# Altium footprint library SparkFun-GPS.PCBLIB: 20 footprints (part 1 of 2)
Each footprint in its own frame and in the unit in brackets; x right, y up, seen from the top. Pads: shape width x height; smd on the part's side, far side on the other; paste and mask are expansions set on the pad; w line width, h text height; cw(c..) or ccw(c..) is an arc to the next point about the centre after c.
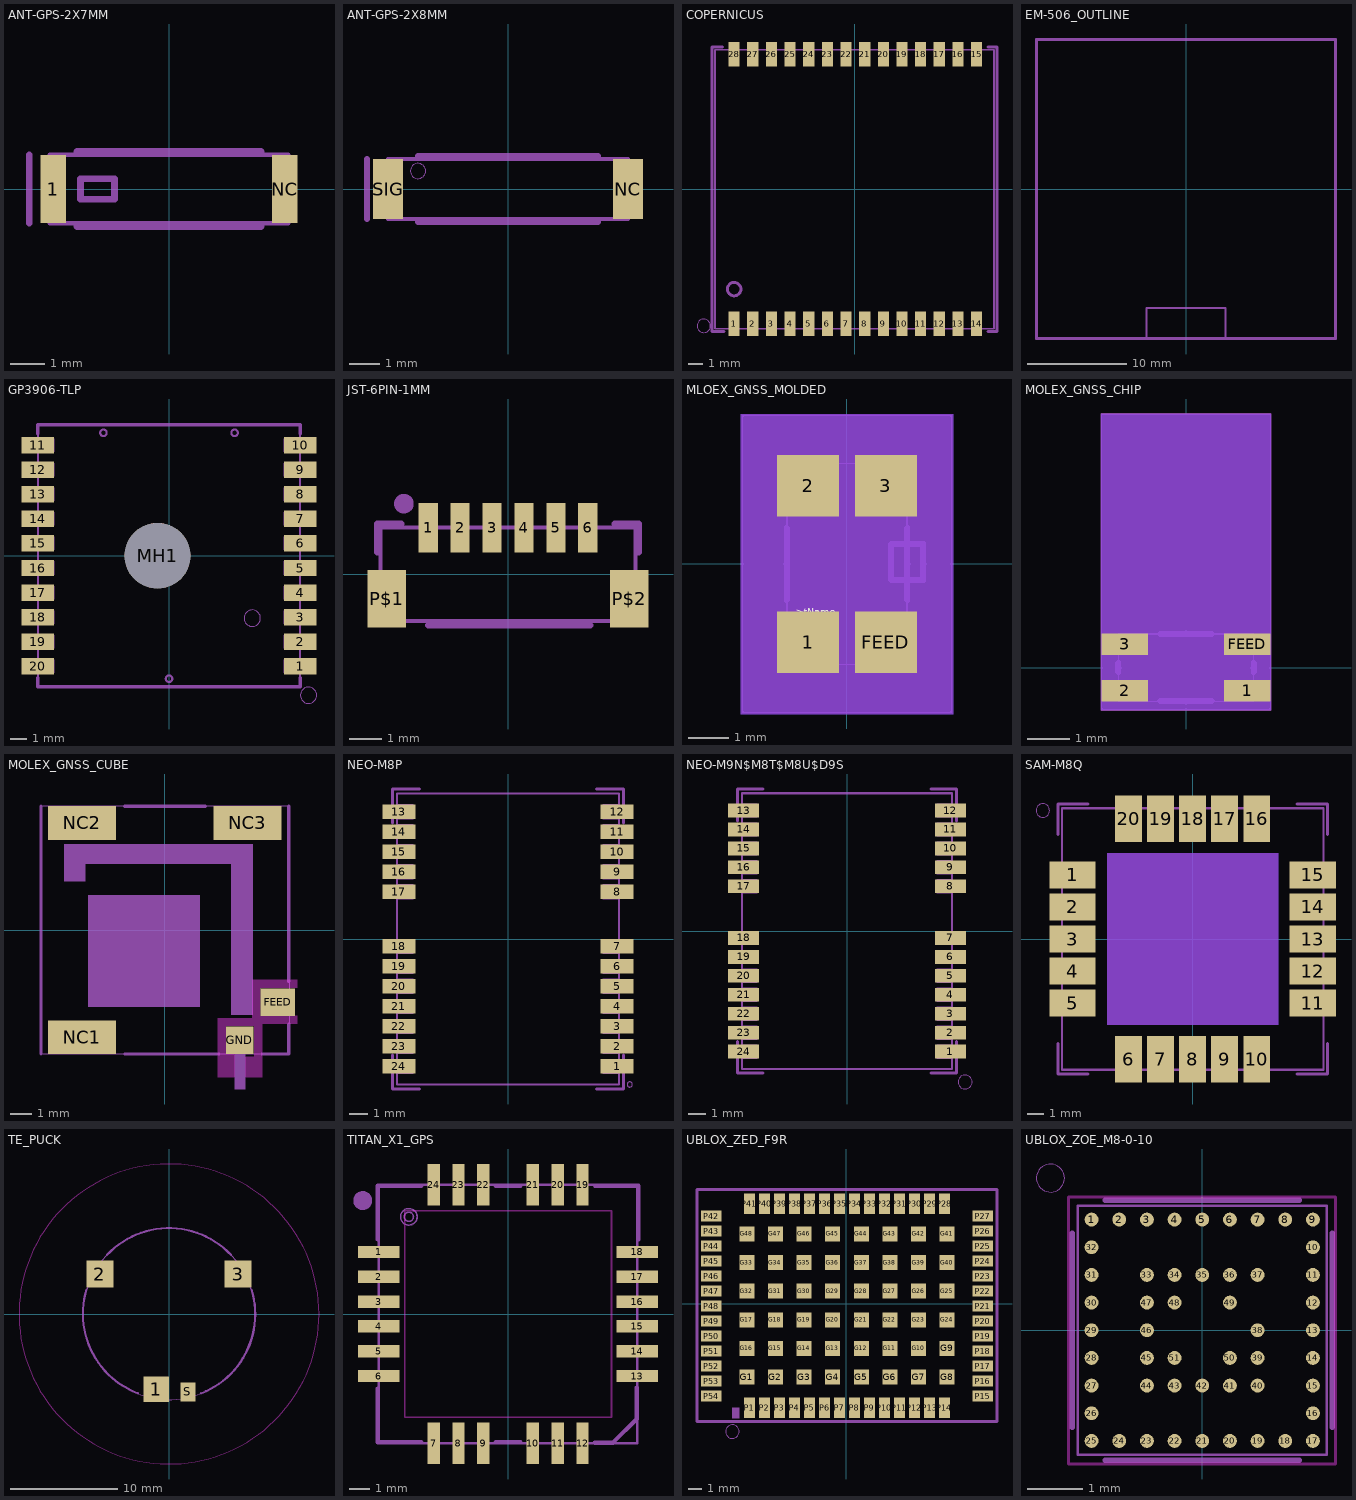
[diagram p0: the footprints below, top view; thin cyan lines are the x and y axes]

## ANT-GPS-2X7MM [mm]
pads (2):
  rect 0.75x2 smd: 1(-3.4,0) NC(3.4,0)
tDocu:
  lines w0.127: -3.5,-1 3.5,-1 3.5,1 -3.5,1 -3.5,-1
tPlace:
  lines w0.203: -4.1,-1 -4.1,1 ; -2.7,-1.1 2.7,-1.1 ; -2.7,1.1 2.7,1.1 ; -2.6,-0.3 -2.6,0.3 -1.6,0.3 -1.6,-0.3 -2.6,-0.3

## ANT-GPS-2X8MM [mm]
pads (2):
  rect 1x2 smd: NC(4,0) SIG(-4,0)
tDocu:
  lines w0.127: -4,-1 -4,1 4,1 4,-1 -4,-1
  text "152111" at 0,0 h0.52
tPlace:
  circle w0: c-3,0.6 r0.254
  lines w0.203: -4.7,-1 -4.7,1 ; -3,-1.1 3,-1.1 ; -3,1.1 3,1.1

## COPERNICUS [mil]
pads (28):
  rect 30x65 smd paste+0: 1(-322.83,-360.8) 2(-272.83,-360.8) 3(-222.83,-360.8) 4(-172.83,-360.8) 5(-122.83,-360.8) 6(-72.83,-360.8) 7(-22.83,-360.8) 8(27.17,-360.8) 9(77.17,-360.8) 10(127.17,-360.8) 11(177.17,-360.8) 12(227.17,-360.8) 13(277.17,-360.8) 14(327.17,-360.8) 15(327.17,362.2) 16(277.17,362.2) 17(227.17,362.2) 18(177.17,362.2) 19(127.17,362.2) 20(77.17,362.2) 21(27.17,362.2) 22(-22.83,362.2) 23(-72.83,362.2) 24(-122.83,362.2) 25(-172.83,362.2) 26(-222.83,362.2) 27(-272.83,362.2) 28(-322.83,362.2)
Top Paste:
  drawing of 28 lines, arcs and shapes, not listed
tDocu:
  lines w5: -374.02,-374.02 -374.02,374.02 374.02,374.02 374.02,-374.02 -374.02,-374.02
tPlace:
  circle w8: c-322.83,-267.72 r17.99
  circle w0: c-404.45,-366.14 r17.99
  lines w8: -354.33,381.89 -381.89,381.89 -381.89,-381.89 -350.39,-381.89 ; 358.27,-381.89 381.89,-381.89 381.89,381.89 358.27,381.89

## EM-506_OUTLINE [mm]
tDocu:
  lines w0.127: -15,-15 -15,15 15,15 15,-15 -15,-15
tPlace:
  lines w0.203: -4,-15.127 4,-15.127 ; -4,-15.127 -15.127,-15.127 -15.127,15.127 15.127,15.127 15.127,-15.127 4,-15.127 ; -4,-15.127 -4,-12 4,-12 4,-15.127

## GP3906-TLP [mm]
pads (21):
  rect 2x1 smd paste+0: 1(8,-6.75) 2(8,-5.25) 3(8,-3.75) 4(8,-2.25) 5(8,-0.75) 6(8,0.75) 7(8,2.25) 8(8,3.75) 9(8,5.25) 10(8,6.75) 11(-8,6.75) 12(-8,5.25) 13(-8,3.75) 14(-8,2.25) 15(-8,0.75) 16(-8,-0.75) 17(-8,-2.25) 18(-8,-3.75) 19(-8,-5.25) 20(-8,-6.75)
  round 4 hole 4 unplated: MH1(-0.7,0)
Top Paste:
  region: -9.15,-1.4 -9.15,-0.1 -6.85,-0.1 -6.85,-1.4
  region: -9.15,0.1 -9.15,1.4 -6.85,1.4 -6.85,0.1
  region: -9.15,1.6 -9.15,2.9 -6.85,2.9 -6.85,1.6
  region: -9.15,3.1 -9.15,4.4 -6.85,4.4 -6.85,3.1
  region: -9.15,4.6 -9.15,5.9 -6.85,5.9 -6.85,4.6
  region: -9.15,6.1 -9.15,7.4 -6.85,7.4 -6.85,6.1
  region: -9.15,-2.9 -9.15,-1.6 -6.85,-1.6 -6.85,-2.9
  region: -9.15,-4.4 -9.15,-3.1 -6.85,-3.1 -6.85,-4.4
  region: -9.15,-5.9 -9.15,-4.6 -6.85,-4.6 -6.85,-5.9
  region: -9.15,-7.4 -9.15,-6.1 -6.85,-6.1 -6.85,-7.4
  region: 9.15,-6.1 9.15,-7.4 6.85,-7.4 6.85,-6.1
  region: 9.15,-4.6 9.15,-5.9 6.85,-5.9 6.85,-4.6
  region: 9.15,-3.1 9.15,-4.4 6.85,-4.4 6.85,-3.1
  region: 9.15,-1.6 9.15,-2.9 6.85,-2.9 6.85,-1.6
  region: 9.15,-0.1 9.15,-1.4 6.85,-1.4 6.85,-0.1
  region: 9.15,1.4 9.15,0.1 6.85,0.1 6.85,1.4
  region: 9.15,2.9 9.15,1.6 6.85,1.6 6.85,2.9
  region: 9.15,4.4 9.15,3.1 6.85,3.1 6.85,4.4
  region: 9.15,5.9 9.15,4.6 6.85,4.6 6.85,5.9
  region: 9.15,7.4 9.15,6.1 6.85,6.1 6.85,7.4
tDocu:
  drawing of 28 lines, arcs and shapes, not listed
tPlace:
  circle w0: c8.509,-8.508 r0.5
  circle w0: c5.08,-3.809 r0.5
  lines w0.127: 8,-7.45 8,7.45
  lines w0.203: -8,-7.45 -8,-8 8,-8 8,-7.45 ; -8,7.45 -8,8 8,8 8,7.45

## JST-6PIN-1MM [mm]
pads (8):
  rect 0.6x1.55 smd: 1(-2.5,1.45) 2(-1.5,1.45) 3(-0.5,1.45) 4(0.5,1.45) 5(1.5,1.45) 6(2.5,1.45)
  rect 1.2x1.8 smd: P$1(-3.8,-0.775) P$2(3.8,-0.775)
tDocu:
  lines w0.127: -4,-1.471 4,-1.471 4,1.471 -4,1.471 -4,-1.471
tPlace:
  circle w0.406: c-3.262,2.212 r0.105
  lines w0.203: -4.104,0.688 -4.104,1.577 -3.342,1.577 ; -2.5,-1.598 2.58,-1.598 ; 3.342,1.577 4.104,1.577 4.104,0.688

## MLOEX_GNSS_MOLDED [mm]
pads (4):
  rect 1.54x1.54 smd: 1(-0.97,-1.95) 2(-0.97,1.95) 3(0.97,1.95) FEED(0.97,-1.95)
Top keep-out:
  region: -2.64,-1.2 -2.64,3.735 2.64,3.735 2.64,-1.2
  region: -2.64,-3.735 -2.64,-1.2 0.2,-1.2 0.2,-3.735
  region: 0.2,-3.735 0.2,-2.7 2.64,-2.7 2.64,-3.735
Bottom keep-out:
  region: -2.64,-3.735 -2.64,3.735 2.64,3.735 2.64,-3.735
Top Overlay:
  text ">tName" at -1.27,-1.27 h0.17
tDocu:
  lines w0.05: -2.6,-3.7 2.6,-3.7 2.6,3.7 -2.6,3.7 -2.6,-3.7 ; -1.5,-2.5 -1.5,2.5 1.5,2.5 1.5,-2.5 -1.5,-2.5
tValues:
  text ">tValue" at -1.27,-1.651 h0.17
tPlace:
  lines w0.152: -1.5,-0.9 -1.5,0.9 ; 1.5,-0.9 1.5,-0.4 ; 1.5,0.9 1.5,0.5 ; 1.6,0.5 1.9,0.5 1.9,-0.4 1.5,-0.4 ; 1.5,-0.4 1.5,0.5 ; 1.5,-0.4 1.1,-0.4 1.1,0.5 1.5,0.5

## MOLEX_GNSS_CHIP [mm]
pads (4):
  rect 1.1x0.5 smd: 1(1.45,-0.55) 2(-1.45,-0.55) 3(-1.45,0.55) FEED(1.45,0.55)
Top keep-out:
  region: -2,1 -2,6 2,6 2,1
  region: -0.8,-1 -0.8,1 0.8,1 0.8,-1
  region: -2,-0.2 -2,0.2 2,0.2 2,-0.2
Bottom keep-out:
  region: -2,-1 -2,6 2,6 2,-1
tDocu:
  lines w0.05: -2,-1 2,-1 2,6 -2,6 -2,-1 ; -1.6,-0.8 1.6,-0.8 1.6,0.8 -1.6,0.8 -1.6,-0.8
  text "Reversible" at 0,0.15 h0.17
  text "Antenna" at 0,-0.15 h0.17
tPlace:
  lines w0.152: -1.6,-0.1 -1.6,0.1 ; -0.6,-0.8 0.6,-0.8 ; -0.6,0.8 0.6,0.8 ; 1.6,-0.1 1.6,0.1

## MOLEX_GNSS_CUBE [mm]
pads (5):
  rect 1.61x1.3 smd: FEED(5.33,-3.4)
  rect 1.3x1.32 smd: GND(3.545,-5.2)
  rect 3.2x1.6 smd: NC1(-3.905,-5.06) NC2(-3.905,5.06) NC3(3.905,5.06)
Top keep-out:
  region: 4.125,-4.45 4.125,-2.35 4.5,-2.35 4.5,-4.45
  region: 6.25,-2.725 4.15,-2.725 4.15,-2.35 6.25,-2.35
  region: 6.25,-4.425 4.15,-4.425 4.15,-4.05 6.25,-4.05
  region: 4.6,-4.525 2.5,-4.525 2.5,-4.15 4.6,-4.15
  region: 4.225,-6.95 4.225,-4.5 4.6,-4.5 4.6,-6.95
  region: 3.795,-6.95 3.795,-5.975 4.237,-5.975 4.237,-6.95
  region: 2.845,-6.95 2.845,-5.625 3.288,-5.625 3.288,-6.95
  region: 2.875,-4.5 2.875,-6.95 2.5,-6.95 2.5,-4.5
  lines w0.05: 3.1,-6.94 3.1,-5.9
tDocu:
  region: 3.295,-7.5 3.295,-5 3.795,-5 3.795,-7.5
  lines w0.05: -5.86,-5.86 5.86,-5.86 5.86,5.86 -5.86,5.86 -5.86,-5.86
tPlace:
  region: 3.14,-4 3.14,4.05 4.14,4.05 4.14,-4
  region: -4.75,3.14 -4.75,4.05 3.14,4.05 3.14,3.14
  region: -4.75,2.3 -4.75,3.14 -3.75,3.14 -3.75,2.3
  region: -3.61,-3.61 -3.61,1.64 1.64,1.64 1.64,-3.61
  lines w0.152: -5.842,-5.842 -5.842,5.842 ; -1.905,-5.842 2.54,-5.842 ; -1.905,5.842 1.905,5.842 ; 4.572,-5.842 5.842,-5.842 5.842,-4.445 ; 5.842,-2.413 5.842,5.842

## NEO-M8P [mm]
pads (24):
  rect 1.8x0.8 smd paste+0: 1(6,-7) 2(6,-5.9) 3(6,-4.8) 4(6,-3.7) 5(6,-2.6) 6(6,-1.5) 7(6,-0.4) 8(6,2.6) 9(6,3.7) 10(6,4.8) 11(6,5.9) 12(6,7) 13(-6,7) 14(-6,5.9) 15(-6,4.8) 16(-6,3.7) 17(-6,2.6) 18(-6,-0.4) 19(-6,-1.5) 20(-6,-2.6) 21(-6,-3.7) 22(-6,-4.8) 23(-6,-5.9) 24(-6,-7)
Top Paste:
  drawing of 48 lines, arcs and shapes, not listed
tDocu:
  region: 5.2,-7.4 5.2,-6.6 6.1,-6.6 6.1,-7.4
  region: 5.2,-6.3 5.2,-5.5 6.1,-5.5 6.1,-6.3
  region: 5.2,-5.2 5.2,-4.4 6.1,-4.4 6.1,-5.2
  region: 5.2,-4.1 5.2,-3.3 6.1,-3.3 6.1,-4.1
  region: 5.2,-3 5.2,-2.2 6.1,-2.2 6.1,-3
  region: 5.2,-1.9 5.2,-1.1 6.1,-1.1 6.1,-1.9
  region: 5.2,-0.8 5.2,0 6.1,0 6.1,-0.8
  region: 5.2,2.2 5.2,3 6.1,3 6.1,2.2
  region: 5.2,3.3 5.2,4.1 6.1,4.1 6.1,3.3
  region: 5.2,4.4 5.2,5.2 6.1,5.2 6.1,4.4
  region: 5.2,5.5 5.2,6.3 6.1,6.3 6.1,5.5
  region: 5.2,6.6 5.2,7.4 6.1,7.4 6.1,6.6
  region: -6.1,6.6 -6.1,7.4 -5.2,7.4 -5.2,6.6
  region: -6.1,5.5 -6.1,6.3 -5.2,6.3 -5.2,5.5
  region: -6.1,4.4 -6.1,5.2 -5.2,5.2 -5.2,4.4
  region: -6.1,3.3 -6.1,4.1 -5.2,4.1 -5.2,3.3
  region: -6.1,2.2 -6.1,3 -5.2,3 -5.2,2.2
  region: -6.1,-0.8 -6.1,0 -5.2,0 -5.2,-0.8
  region: -6.1,-1.9 -6.1,-1.1 -5.2,-1.1 -5.2,-1.9
  region: -6.1,-3 -6.1,-2.2 -5.2,-2.2 -5.2,-3
  region: -6.1,-4.1 -6.1,-3.3 -5.2,-3.3 -5.2,-4.1
  region: -6.1,-5.2 -6.1,-4.4 -5.2,-4.4 -5.2,-5.2
  region: -6.1,-6.3 -6.1,-5.5 -5.2,-5.5 -5.2,-6.3
  region: -6.1,-7.4 -6.1,-6.6 -5.2,-6.6 -5.2,-7.4
  lines w0.127: -6.1,-8 6.1,-8 6.1,8 -6.1,8 -6.1,-8
tPlace:
  circle w0: c6.7,-8 r0.141
  lines w0.178: -6.35,-6.4 -6.35,-8.25 -4.88,-8.25 ; -6.35,6.4 -6.35,8.25 -4.88,8.25 ; 4.88,-8.25 6.35,-8.25 6.35,-6.4 ; 4.88,8.25 6.35,8.25 6.35,6.4

## NEO-M9N$M8T$M8U$D9S [mm]
pads (24):
  rect 1.8x0.8 smd paste+0: 1(6,-7) 2(6,-5.9) 3(6,-4.8) 4(6,-3.7) 5(6,-2.6) 6(6,-1.5) 7(6,-0.4) 8(6,2.6) 9(6,3.7) 10(6,4.8) 11(6,5.9) 12(6,7) 13(-6,7) 14(-6,5.9) 15(-6,4.8) 16(-6,3.7) 17(-6,2.6) 18(-6,-0.4) 19(-6,-1.5) 20(-6,-2.6) 21(-6,-3.7) 22(-6,-4.8) 23(-6,-5.9) 24(-6,-7)
Top Paste:
  drawing of 48 lines, arcs and shapes, not listed
tDocu:
  region: 5.2,-7.4 5.2,-6.6 6.1,-6.6 6.1,-7.4
  region: 5.2,-6.3 5.2,-5.5 6.1,-5.5 6.1,-6.3
  region: 5.2,-5.2 5.2,-4.4 6.1,-4.4 6.1,-5.2
  region: 5.2,-4.1 5.2,-3.3 6.1,-3.3 6.1,-4.1
  region: 5.2,-3 5.2,-2.2 6.1,-2.2 6.1,-3
  region: 5.2,-1.9 5.2,-1.1 6.1,-1.1 6.1,-1.9
  region: 5.2,-0.8 5.2,0 6.1,0 6.1,-0.8
  region: 5.2,2.2 5.2,3 6.1,3 6.1,2.2
  region: 5.2,3.3 5.2,4.1 6.1,4.1 6.1,3.3
  region: 5.2,4.4 5.2,5.2 6.1,5.2 6.1,4.4
  region: 5.2,5.5 5.2,6.3 6.1,6.3 6.1,5.5
  region: 5.2,6.6 5.2,7.4 6.1,7.4 6.1,6.6
  region: -6.1,6.6 -6.1,7.4 -5.2,7.4 -5.2,6.6
  region: -6.1,5.5 -6.1,6.3 -5.2,6.3 -5.2,5.5
  region: -6.1,4.4 -6.1,5.2 -5.2,5.2 -5.2,4.4
  region: -6.1,3.3 -6.1,4.1 -5.2,4.1 -5.2,3.3
  region: -6.1,2.2 -6.1,3 -5.2,3 -5.2,2.2
  region: -6.1,-0.8 -6.1,0 -5.2,0 -5.2,-0.8
  region: -6.1,-1.9 -6.1,-1.1 -5.2,-1.1 -5.2,-1.9
  region: -6.1,-3 -6.1,-2.2 -5.2,-2.2 -5.2,-3
  region: -6.1,-4.1 -6.1,-3.3 -5.2,-3.3 -5.2,-4.1
  region: -6.1,-5.2 -6.1,-4.4 -5.2,-4.4 -5.2,-5.2
  region: -6.1,-6.3 -6.1,-5.5 -5.2,-5.5 -5.2,-6.3
  region: -6.1,-7.4 -6.1,-6.6 -5.2,-6.6 -5.2,-7.4
  lines w0.127: -6.1,-8 6.1,-8 6.1,8 -6.1,8 -6.1,-8
tPlace:
  circle w0: c6.858,-8.763 r0.406
  lines w0.178: -6.35,-6.4 -6.35,-8.25 -4.88,-8.25 ; -6.35,6.4 -6.35,8.25 -4.88,8.25 ; 4.88,-8.25 6.35,-8.25 6.35,-6.4 ; 4.88,8.25 6.35,8.25 6.35,6.4

## SAM-M8Q [mm]
pads (20):
  rect 2.75x1.6 smd: 1(-7.125,3.8) 2(-7.125,1.9) 3(-7.125,0) 4(-7.125,-1.9) 5(-7.125,-3.8) 11(7.125,-3.8) 12(7.125,-1.9) 13(7.125,0) 14(7.125,1.9) 15(7.125,3.8)
  rect 1.6x2.75 smd: 6(-3.8,-7.125) 7(-1.9,-7.125) 8(0,-7.125) 9(1.9,-7.125) 10(3.8,-7.125) 16(3.8,7.125) 17(1.9,7.125) 18(0,7.125) 19(-1.9,7.125) 20(-3.8,7.125)
Top keep-out:
  region: -5.08,-5.08 -5.08,5.08 5.08,5.08 5.08,-5.08
Bottom keep-out:
  region: -5.08,-5.08 -5.08,5.08 5.08,5.08 5.08,-5.08
tDocu:
  region: -7.65,3.05 -7.65,4.55 -5.85,4.55 -5.85,3.05
  region: -7.65,1.15 -7.65,2.65 -5.85,2.65 -5.85,1.15
  region: -7.65,-0.75 -7.65,0.75 -5.85,0.75 -5.85,-0.75
  region: -7.65,-2.65 -7.65,-1.15 -5.85,-1.15 -5.85,-2.65
  region: -7.65,-4.55 -7.65,-3.05 -5.85,-3.05 -5.85,-4.55
  region: -4.55,-7.65 -4.55,-5.85 -3.05,-5.85 -3.05,-7.65
  region: -2.65,-7.65 -2.65,-5.85 -1.15,-5.85 -1.15,-7.65
  region: -0.75,-7.65 -0.75,-5.85 0.75,-5.85 0.75,-7.65
  region: 1.15,-7.65 1.15,-5.85 2.65,-5.85 2.65,-7.65
  region: 3.05,-7.65 3.05,-5.85 4.55,-5.85 4.55,-7.65
  region: 5.85,-4.55 5.85,-3.05 7.65,-3.05 7.65,-4.55
  region: 5.85,-2.65 5.85,-1.15 7.65,-1.15 7.65,-2.65
  region: 5.85,-0.75 5.85,0.75 7.65,0.75 7.65,-0.75
  region: 5.85,1.15 5.85,2.65 7.65,2.65 7.65,1.15
  region: 5.85,3.05 5.85,4.55 7.65,4.55 7.65,3.05
  region: 3.05,5.85 3.05,7.65 4.55,7.65 4.55,5.85
  region: 1.15,5.85 1.15,7.65 2.65,7.65 2.65,5.85
  region: -0.75,5.85 -0.75,7.65 0.75,7.65 0.75,5.85
  region: -2.65,5.85 -2.65,7.65 -1.15,7.65 -1.15,5.85
  region: -4.55,5.85 -4.55,7.65 -3.05,7.65 -3.05,5.85
  lines w0.127: -7.75,-7.75 7.75,-7.75 7.75,7.75 -7.75,7.75 -7.75,-7.75
tPlace:
  circle w0: c-8.89,7.62 r0.402
  lines w0.178: -8,-6.2 -8,-8 -6.2,-8 ; -8,6.2 -8,8 -6.2,8 ; 6.2,-8 8,-8 8,-6.2 ; 6.2,8 8,8 8,6.2

## TE_PUCK [mil]
pads (4):
  rect 94.49x94.49 smd: 1(-47.24,-276.77)
  rect 98.43x98.43 smd: 2(-253.67,146.46) 3(253.67,146.46)
  rect 55.12x68.5 smd: S(68.9,-286.61)
Top keep-out:
  circle w1.97: c0,0 r551.18
tDocu:
  circle w1.97: c0,0 r314.96
tPlace:
  lines w8: -303.15,90.55 ccw(c-4.39,0.69) -114.17,-291.34 ; -228.35,216.54 cw(c0,2.88) 228.35,216.54 ; 118.11,-291.34 ccw(c5.9,-1.2) 303.15,90.55

## TITAN_X1_GPS [mm]
pads (24):
  rect 2x0.6 smd: 1(-6.25,3) 2(-6.25,1.8) 3(-6.25,0.6) 4(-6.25,-0.6) 5(-6.25,-1.8) 6(-6.25,-3) 13(6.25,-3) 14(6.25,-1.8) 15(6.25,-0.6) 16(6.25,0.6) 17(6.25,1.8) 18(6.25,3)
  rect 0.6x2 smd: 7(-3.6,-6.25) 8(-2.4,-6.25) 9(-1.2,-6.25) 10(1.2,-6.25) 11(2.4,-6.25) 12(3.6,-6.25) 19(3.6,6.25) 20(2.4,6.25) 21(1.2,6.25) 22(-1.2,6.25) 23(-2.4,6.25) 24(-3.6,6.25)
Top keep-out:
  lines w0.076: -5,-5 5,-5 5,5 -5,5 -5,-5
tDocu:
  circle w0.076: c-4.8,4.7 r0.4
  circle w0.076: c-4.8,4.7 r0.224
  lines w0.127: -6.25,-6.25 6.25,-6.25 6.25,6.25 -6.25,6.25 -6.25,-6.25
  text "1" at -4.6,2.9 h1.97
tPlace:
  circle w0.457: c-7.031,5.488 r0.229
  lines w0.203: -6.3,-3.6 -6.3,-6.2 -4.2,-6.2 ; -6.3,3.6 -6.3,6.2 -4.2,6.2 ; -0.6,-6.2 0.6,-6.2 ; -0.6,6.2 0.6,6.2 ; 4.191,-6.223 5.08,-6.223 6.223,-5.08 6.223,-3.556 ; 4.2,6.2 6.3,6.2 6.3,3.6

## UBLOX_ZED_F9R [mil]
pads (102):
  rect 43.31x43.31 smd: G1(-287.87,-211.42) G2(-205.2,-211.42) G3(-122.52,-211.42) G4(-39.84,-211.42) G5(42.83,-211.42) G6(125.51,-211.42) G7(208.19,-211.42) G8(290.87,-211.42) G9(290.87,-128.74) G10(208.19,-128.74) G11(125.51,-128.74) G12(42.83,-128.74) G13(-39.84,-128.74) G14(-122.52,-128.74) G15(-205.2,-128.74) G16(-287.87,-128.74) G17(-287.87,-46.06) G18(-205.2,-46.06) G19(-122.52,-46.06) G20(-39.84,-46.06) G21(42.83,-46.06) G22(125.51,-46.06) G23(208.19,-46.06) G24(290.87,-46.06) G25(290.87,36.61) G26(208.19,36.61) G27(125.51,36.61) G28(42.83,36.61) G29(-39.84,36.61) G30(-122.52,36.61) G31(-205.2,36.61) G32(-287.87,36.61) G33(-287.87,119.29) G34(-205.2,119.29) G35(-122.52,119.29) G36(-39.84,119.29) G37(42.83,119.29) G38(125.51,119.29) G39(208.19,119.29) G40(290.87,119.29) G41(290.87,201.97) G42(208.19,201.97) G43(125.51,201.97) G44(42.83,201.97) G45(-39.84,201.97) G46(-122.52,201.97) G47(-205.2,201.97) G48(-287.87,201.97)
  rect 31.5x59.06 smd: P1(-280,-300) P2(-236.69,-300) P3(-193.39,-300) P4(-150.08,-300) P5(-106.77,-300) P6(-63.46,-300) P7(-20.16,-300) P8(23.15,-300) P9(66.46,-300) P10(109.76,-300) P11(153.07,-300) P12(196.38,-300) P13(239.69,-300) P14(282.99,-300) P28(282.99,288.58) P29(239.69,288.58) P30(196.38,288.58) P31(153.07,288.58) P32(109.76,288.58) P33(66.46,288.58) P34(23.15,288.58) P35(-20.16,288.58) P36(-63.46,288.58) P37(-106.77,288.58) P38(-150.08,288.58) P39(-193.39,288.58) P40(-236.69,288.58) P41(-280,288.58)
  rect 59.06x31.5 smd: P15(393.23,-266.54) P16(393.23,-223.23) P17(393.23,-179.92) P18(393.23,-136.61) P19(393.23,-93.31) P20(393.23,-50) P21(393.23,-6.69) P22(393.23,36.61) P23(393.23,79.92) P24(393.23,123.23) P25(393.23,166.54) P26(393.23,209.84) P27(393.23,253.15) P42(-390.24,253.15) P43(-390.24,209.84) P44(-390.24,166.54) P45(-390.24,123.23) P46(-390.24,79.92) P47(-390.24,36.61) P48(-390.24,-6.69) P49(-390.24,-50) P50(-390.24,-93.31) P51(-390.24,-136.61) P52(-390.24,-179.92) P53(-390.24,-223.23) P54(-390.24,-266.54)
tDocu:
  region: -330,-330 -330,-300 -310,-300 -310,-330
  lines w8: -431.57,-339.37 434.57,-339.37 434.57,329.92 -431.57,329.92 -431.57,-339.37
tPlace:
  circle w0: c-329.21,-368.9 r19.69
  lines w8: -431.57,-290 -431.57,-340 -310,-340 ; -431.57,270 -431.57,330 -310,330 ; 310,-340 434.57,-340 434.57,-290 ; 320,330 434.57,330 434.57,280

## UBLOX_ZOE_M8-0-10 [mm]
pads (51):
  rrect100% 0.25x0.25 smd mask+0: 1(-1.996,2.004) 2(-1.496,2.004) 3(-0.996,2.004) 4(-0.496,2.004) 5(0.004,2.004) 6(0.504,2.004) 7(1.004,2.004) 8(1.504,2.004) 9(2.004,2.004) 10(2.004,1.504) 11(2.004,1.004) 12(2.004,0.504) 13(2.004,0.004) 14(2.004,-0.496) 15(2.004,-0.996) 16(2.004,-1.496) 17(2.004,-1.996) 18(1.504,-1.996) 19(1.004,-1.996) 20(0.504,-1.996) 21(0.004,-1.996) 22(-0.496,-1.996) 23(-0.996,-1.996) 24(-1.496,-1.996) 25(-1.996,-1.996) 26(-1.996,-1.496) 27(-1.996,-0.996) 28(-1.996,-0.496) 29(-1.996,0.004) 30(-1.996,0.504) 31(-1.996,1.004) 32(-1.996,1.504) 33(-0.996,1.004) 34(-0.496,1.004) 35(0.004,1.004) 36(0.504,1.004) 37(1.004,1.004) 38(1.004,0.004) 39(1.004,-0.496) 40(1.004,-0.996) 41(0.504,-0.996) 42(0.004,-0.996) 43(-0.496,-0.996) 44(-0.996,-0.996) 45(-0.996,-0.496) 46(-0.996,0.004) 47(-0.996,0.504) 48(-0.496,0.504) 49(0.504,0.504) 50(0.504,-0.496) 51(-0.496,-0.496)
Top keep-out:
  lines w0.051: -2.413,-2.413 -2.413,2.413 2.413,2.413 2.413,-2.413 -2.413,-2.413
Top Solder:
  circle w0: c-1.996,-1.994 r0.15
  circle w0: c-1.497,-1.994 r0.15
  circle w0: c-0.996,-1.994 r0.15
  circle w0: c-0.497,-1.994 r0.15
  circle w0: c0.004,-1.994 r0.15
  circle w0: c0.503,-1.994 r0.15
  circle w0: c1.004,-1.994 r0.15
  circle w0: c1.503,-1.994 r0.15
  circle w0: c2.004,-1.994 r0.15
  circle w0: c-1.996,2.006 r0.15
  circle w0: c-1.497,2.006 r0.15
  circle w0: c-0.996,2.006 r0.15
  circle w0: c-0.497,2.006 r0.15
  circle w0: c0.004,2.006 r0.15
  circle w0: c0.503,2.006 r0.15
  circle w0: c1.004,2.006 r0.15
  circle w0: c1.503,2.006 r0.15
  circle w0: c2.004,2.006 r0.15
  circle w0: c-1.998,-1.496 r0.15
  circle w0: c-1.998,-0.996 r0.15
  circle w0: c-1.998,-0.496 r0.15
  circle w0: c-1.998,0.004 r0.15
  circle w0: c-1.998,0.504 r0.15
  circle w0: c-1.998,1.004 r0.15
  circle w0: c-1.998,1.504 r0.15
  circle w0: c2.004,-1.498 r0.15
  circle w0: c2.004,-0.998 r0.15
  circle w0: c2.004,-0.498 r0.15
  circle w0: c2.004,0.002 r0.15
  circle w0: c2.004,0.502 r0.15
  circle w0: c2.004,1.002 r0.15
  circle w0: c2.004,1.502 r0.15
  circle w0: c1.005,1.004 r0.15
  circle w0: c0.505,1.004 r0.15
  circle w0: c0.005,1.004 r0.15
  circle w0: c-0.495,1.004 r0.15
  circle w0: c-0.995,1.004 r0.15
  circle w0: c1.003,-0.998 r0.15
  circle w0: c0.502,-0.997 r0.15
  circle w0: c0.003,-0.997 r0.15
  circle w0: c-0.496,-0.997 r0.15
  circle w0: c-0.997,-0.997 r0.15
  circle w0: c-0.995,-0.498 r0.15
  circle w0: c-0.495,-0.499 r0.15
  circle w0: c0.504,-0.499 r0.15
  circle w0: c1.002,-0.5 r0.15
  circle w0: c1.002,0.003 r0.15
  circle w0: c-0.998,0.004 r0.15
  circle w0: c0.501,0.505 r0.15
  circle w0: c-0.499,0.503 r0.15
  circle w0: c-0.997,0.505 r0.15
tDocu:
  lines w0.05: -2.246,-2.246 2.254,-2.246 2.254,2.254 -2.246,2.254 -2.246,-2.246
tPlace:
  circle w0: c-2.738,2.754 r0.254
  lines w0.1: -2.346,-1.746 -2.346,1.754 ; -1.746,-2.346 1.754,-2.346 ; -1.746,2.354 1.754,2.354 ; 2.354,-1.746 2.354,1.754